# Altium schematic symbol library SCH - AMP AUDIO - ANALOG SSM2167-1RM-R2.SchLib: 1 symbol
Pins are listed as number, name and electrical type; pins without a type are passive.

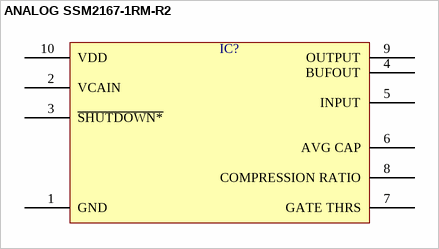
[diagram p0: symbol ANALOG SSM2167-1RM-R2]

## ANALOG SSM2167-1RM-R2
designator IC?  (value not drawn)
pins: 1 GND, 2 VCAIN, 3 ~{SHUTDOWN*}, 4 BUFOUT, 5 INPUT, 6 AVG CAP, 7 GATE THRS, 8 COMPRESSION RATIO, 9 OUTPUT, 10 VDD